# Altium footprint library this.PcbLib: 20 footprints (part 1 of 2)
Each footprint in its own frame and in the unit in brackets; x right, y up, seen from the top. Pads: shape width x height; smd on the part's side, far side on the other; paste and mask are expansions set on the pad; w line width, h text height; cw(c..) or ccw(c..) is an arc to the next point about the centre after c.
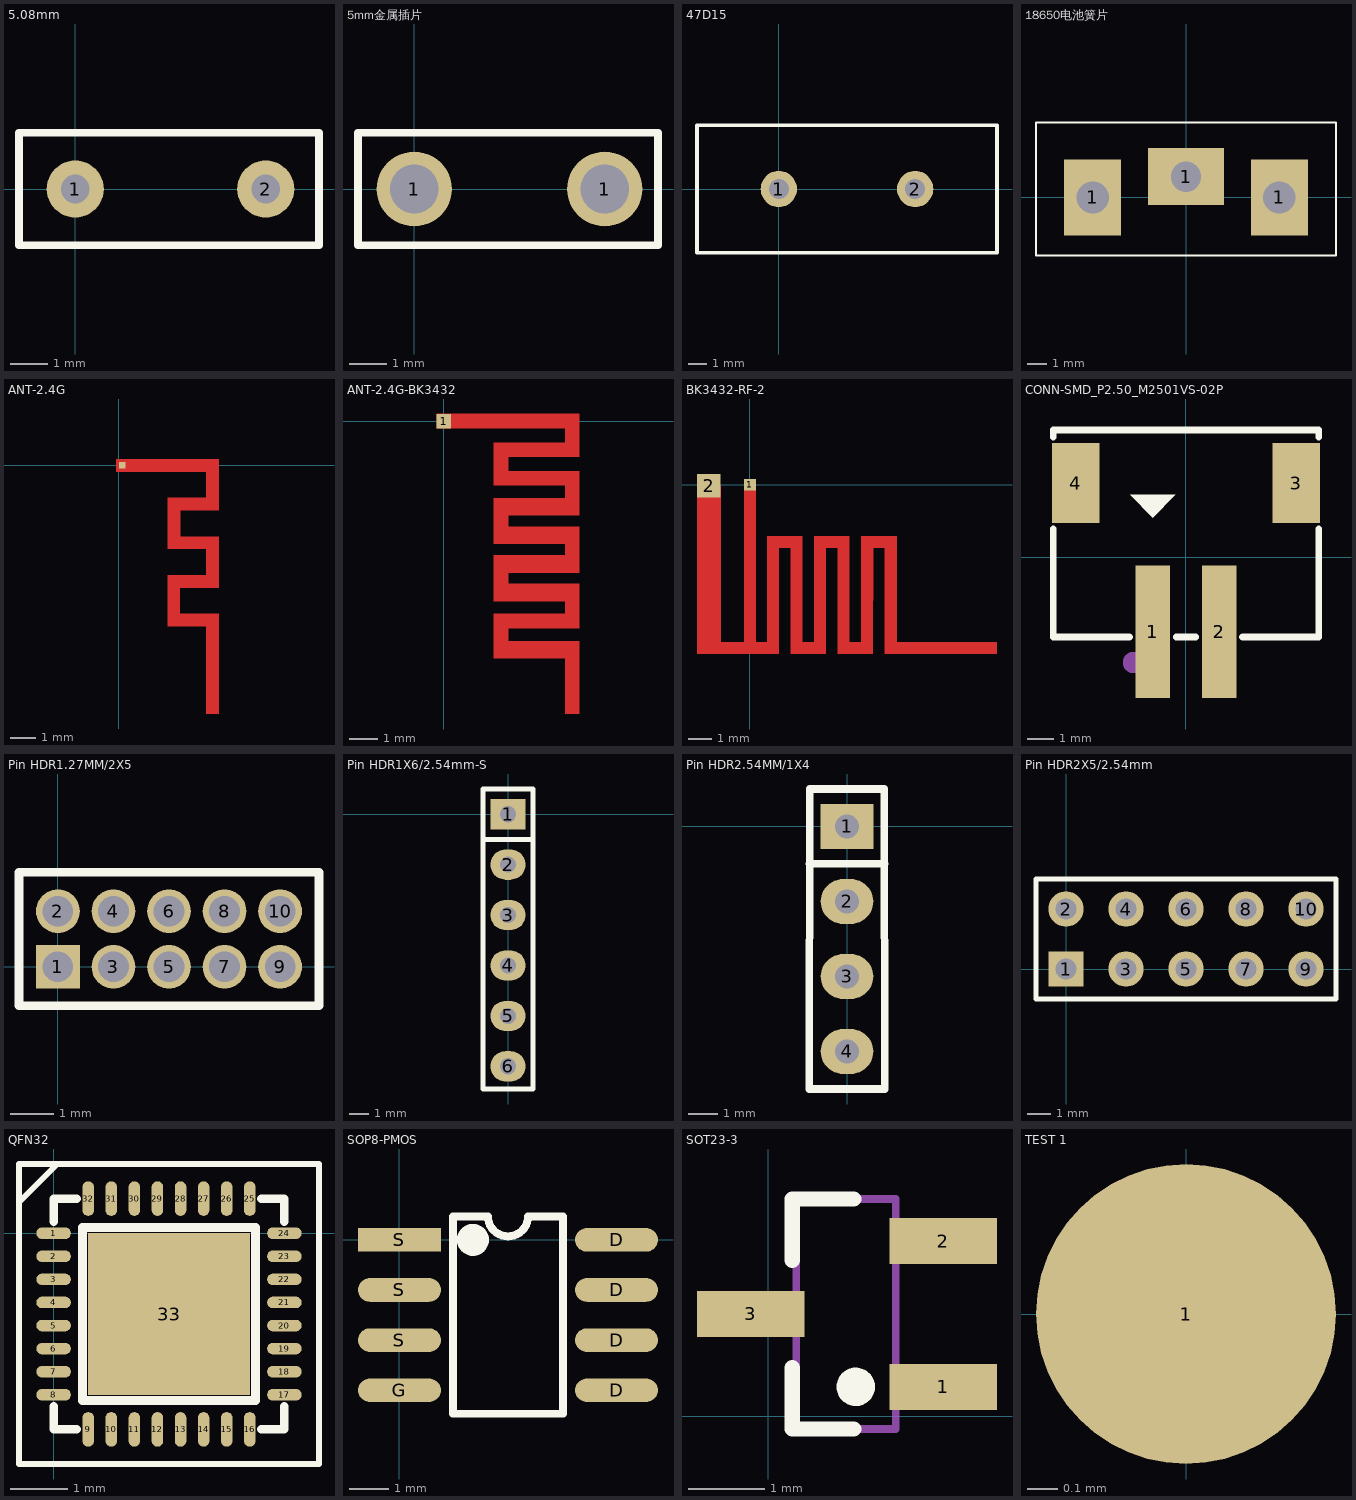
[diagram p0: the footprints below, top view; thin cyan lines are the x and y axes]

## 5.08mm [mil] "PTC"
pads (2):
  round 60 hole 30: 1(0,0) 2(200,0)
Top Overlay:
  lines w8: -59.06,-59.06 -59.06,59.06 255.91,59.06 255.91,-59.06 -59.06,-59.06

## 5mm金属插片 [mm]
pads (2):
  round 2 hole 1.3: 1(0,0) 1(5.08,0)
Top Overlay:
  lines w0.203: -1.5,-1.5 -1.5,1.5 6.5,1.5 6.5,-1.5 -1.5,-1.5

## 47D15 [mm] "NTC电阻"
pads (2):
  round 2 hole 1.1: 1(0,0) 2(7.5,0)
Top Overlay:
  lines w0.203: -4.5,-3.5 -4.5,3.5 12,3.5 12,-3.5 -4.5,-3.5

## 18650电池簧片 [mm]
pads (3):
  rect 3x4 hole 1.7 square: 1(-4.9,0) 1(4.9,0)
  rect 4x3 hole 1.6 square: 1(0,1.1)
Top Overlay:
  lines w0.127: -7.874,-3.048 -7.874,3.937 7.874,3.937 7.874,-3.048 -7.874,-3.048

## ANT-2.4G [mil]
pads (1):
  rect 10x10 smd: 1(5,0)
Top Layer:
  rectangle: 132.94,-380.52 152.62,-226.99
  region: 73.88,-226.99 73.88,-246.67 152.62,-246.67 152.62,-226.99
  region: 93.57,-167.93 73.88,-167.93 73.88,-246.67 93.57,-246.67
  region: 152.62,-187.62 152.62,-167.93 73.88,-167.93 73.88,-187.62
  rectangle: 133.24,-187.57 152.93,-108.83
  region: 74.19,-108.83 74.19,-128.51 152.93,-128.51 152.93,-108.83
  rectangle: 74.19,-128.51 93.87,-49.77
  region: 152.93,-69.46 152.93,-49.77 74.19,-49.77 74.19,-69.46
  rectangle: 133.24,-69.46 152.93,9.28
  region: -4.54,9.28 -4.54,-10.4 152.93,-10.4 152.93,9.28

## ANT-2.4G-BK3432 [mm]
pads (1):
  rect 0.5x0.5 smd: 1(0,0)
Top Layer:
  region: -0.25,0.25 -0.25,-0.25 4.25,-0.25 4.25,-0.75 1.75,-0.75 1.75,-2.25 4.25,-2.25 4.25,-2.7 1.75,-2.7 1.75,-4.3 4.25,-4.3 4.25,-4.7 1.75,-4.7 1.75,-6.3 4.25,-6.3 4.25,-6.75 1.75,-6.75 1.75,-8.3 4.25,-8.3 4.25,-10.25 4.75,-10.25 4.75,-7.7 2.25,-7.7 2.25,-7.25 4.75,-7.25 4.75,-5.7 2.25,-5.7 2.25,-5.3 4.75,-5.3 4.75,-3.7 2.25,-3.7 2.25,-3.3 4.75,-3.3 4.75,-1.75 2.25,-1.75 2.25,-1.25 4.75,-1.25 4.75,0.25
Top Solder:
  region: -0.25,0.25 -0.25,-0.25 4.25,-0.25 4.25,-0.75 1.75,-0.75 1.75,-2.25 4.25,-2.25 4.25,-2.7 1.75,-2.7 1.75,-4.3 4.25,-4.3 4.25,-4.7 1.75,-4.7 1.75,-6.3 4.25,-6.3 4.25,-6.75 1.75,-6.75 1.75,-8.3 4.25,-8.3 4.25,-10.25 4.75,-10.25 4.75,-7.7 2.25,-7.7 2.25,-7.25 4.75,-7.25 4.75,-5.7 2.25,-5.7 2.25,-5.3 4.75,-5.3 4.75,-3.7 2.25,-3.7 2.25,-3.3 4.75,-3.3 4.75,-1.75 2.25,-1.75 2.25,-1.25 4.75,-1.25 4.75,0.25

## BK3432-RF-2 [mm]
height 8
pads (2):
  rect 0.5x0.5 smd mask+0.102: 1(0,0)
  rect 1x1 smd mask+0.102: 2(-1.75,-0.05)
Top Layer:
  region: -2.25,-0.05 -1.25,-0.05 -1.25,-6.69 0.73,-6.69 0.73,-2.19 2.23,-2.19 2.23,-6.69 2.73,-6.69 2.73,-2.19 4.23,-2.19 4.23,-6.69 4.73,-6.69 4.73,-2.19 6.23,-2.19 6.23,-6.69 10.5,-6.69 10.5,-7.19 5.73,-7.19 5.73,-2.69 5.23,-2.69 5.23,-7.19 3.73,-7.19 3.73,-2.69 3.23,-2.69 3.23,-7.19 1.73,-7.19 1.73,-2.69 1.23,-2.69 1.23,-7.19 -2.25,-7.19
  region: -0.25,0 0.25,0 0.25,-6.9 -0.25,-6.9

## CONN-SMD_P2.50_M2501VS-02P [mm]
pads (4):
  rect 1.3x5 smd: 1(-1.25,-2.8) 2(1.25,-2.8)
  rect 1.8x3 smd: 3(4.15,2.8) 4(-4.15,2.8)
Top Overlay:
  region: -2.1,2.35 -0.4,2.35 -1.25,1.49
  lines w0.254: -5,1.069 -5,-3 -2.131,-3 ; -5,4.531 -5,4.8 ; -5,4.8 5,4.8 5,4.531 ; -0.369,-3 0.369,-3 ; 2.131,-3 5,-3 5,1.069
Mechanical 15:
  circle w0.4: c-1.98,-3.96 r0.2

## Pin HDR1.27MM/2X5 [mm] "Connector; Header; 5x2 Position"
pads (10):
  rect 1x1 hole 0.7: 1(0,0)
  round 1 hole 0.7: 2(0,1.27) 3(1.27,0) 4(1.27,1.27) 5(2.54,0) 6(2.54,1.27) 7(3.81,0) 8(3.81,1.27) 9(5.08,0) 10(5.08,1.27)
Top Overlay:
  lines w0.2: -0.889,-0.889 -0.889,2.159 5.969,2.159 5.969,-0.889 -0.889,-0.889

## Pin HDR1X6/2.54mm-S [mil]
pads (6):
  rect 70x60 hole 32: 1(0,0)
  oval 70x60 hole 32: 2(0,-100) 3(0,-200) 4(0,-300) 5(0,-400) 6(0,-500)
Top Overlay:
  lines w10: -50,-50 50,-50 ; -50,-545 50,-545 50,50 -50,50 -50,-545

## Pin HDR2.54MM/1X4 [mil]
pads (4):
  rect 70x60 hole 32: 1(0,0)
  oval 70x60 hole 32: 2(0,-100) 3(0,-200) 4(0,-300)
Top Overlay:
  lines w10: -50,-50 50,-50 ; -50,-350 -50,50 50,50 50,-350 -50,-350

## Pin HDR2X5/2.54mm [mm] "Connector; Header; 5x2 Position"
pads (10):
  rect 1.5x1.5 hole 0.9: 1(0,0)
  round 1.5 hole 0.9: 2(0,2.54) 3(2.54,0) 4(2.54,2.54) 5(5.08,0) 6(5.08,2.54) 7(7.62,0) 8(7.62,2.54) 9(10.16,0) 10(10.16,2.54)
Top Overlay:
  lines w0.2: -1.27,-1.27 11.43,-1.27 11.43,3.81 -1.27,3.81 -1.27,-1.27

## QFN32 [mm]
height 1
pads (33):
  oval 0.6x0.2 smd: 1(0,0) 2(0,-0.4) 3(0,-0.8) 4(0,-1.2) 5(0,-1.6) 6(0,-2) 7(0,-2.4) 8(0,-2.8) 17(4,-2.8) 18(4,-2.4) 19(4,-2) 20(4,-1.6) 21(4,-1.2) 22(4,-0.8) 23(4,-0.4) 24(4,0)
  oval 0.2x0.6 smd: 9(0.6,-3.4) 10(1,-3.4) 11(1.4,-3.4) 12(1.8,-3.4) 13(2.2,-3.4) 14(2.6,-3.4) 15(3,-3.4) 16(3.4,-3.4) 25(3.4,0.6) 26(3,0.6) 27(2.6,0.6) 28(2.2,0.6) 29(1.8,0.6) 30(1.4,0.6) 31(1,0.6) 32(0.6,0.6)
  rect 2.8x2.8 smd: 33(2,-1.4)
Top Overlay:
  lines w0.1: -0.595,0.54 0.055,1.19 ; -0.6,-4 -0.6,1.2 4.6,1.2 4.6,-4 -0.6,-4
  lines w0.15: 0,-3 0,-3.4 0.4,-3.4 ; 0,0.2 0,0.6 0.4,0.6 ; 3.6,-3.4 4,-3.4 4,-3 ; 3.6,0.6 4,0.6 4,0.2 ; 0.5,-2.9 0.5,0.1 3.5,0.1 3.5,-2.9 0.5,-2.9

## SOP8-PMOS [mm]
pads (8):
  oval 2.1x0.6 smd: D(5.5,-3.81) D(5.5,-2.54) D(5.5,-1.27) D(5.5,0) G(0,-3.81) S(0,-2.54) S(0,-1.27)
  rect 2.1x0.6 smd: S(0,0)
Top Overlay:
  circle w0.5: c1.861,0 r0.155
  lines w0.2: 1.353,0.595 1.353,-4.405 4.147,-4.405 4.147,0.595
  lines w0.203: 1.353,0.595 2.242,0.595 ccw(c2.75,0.595) 2.75,0.087 ccw(c2.75,0.595) 3.258,0.595 4.147,0.595
3D body "SOP8.STEP": height 1.9, standoff 0, extent -0.209,-4.405 5.797,0.595

## SOT23-3 [mm]
pads (3):
  rect 1.4x0.6 smd: 1(2.286,0.381) 2(2.286,2.281) 3(-0.228,1.331)
Top Overlay:
  circle w0.25: c1.143,0.381 r0.125
  lines w0.2: 0.316,0.631 0.316,-0.169 1.116,-0.169 ; 0.316,2.031 0.316,2.831 1.116,2.831
Mechanical 13:
  lines w0.1: 0.366,-0.169 1.666,-0.169 1.666,2.831 0.366,2.831 0.366,-0.169
3D body "SOT23-3.STEP": height 1.05, standoff 0, extent -0.336,-0.178 2.064,2.822

## TEST 1 [mm] "测试点1mm"
pads (1):
  round 1 smd: 1(0,0)